# Altium schematic symbol library SSQ-101-03-G-S.SchLib: 2 symbols
Pins are listed as number, name and electrical type; pins without a type are passive.

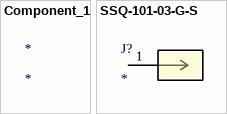
[diagram p0: symbols Component_1 to SSQ-101-03-G-S]

## Component_1
designator *

## SSQ-101-03-G-S
designator J?
No Description Available; Mfr_Name: Samtec Inc; RefDes: RefDes; Type: Type
footprint CON1_1X1_TU_SSQ
pins: 1